# Altium schematic symbol library Tracker_v1_1_sch.SchLib: 44 symbols (part 1 of 2)
Pins are listed as number, name and electrical type; pins without a type are passive.

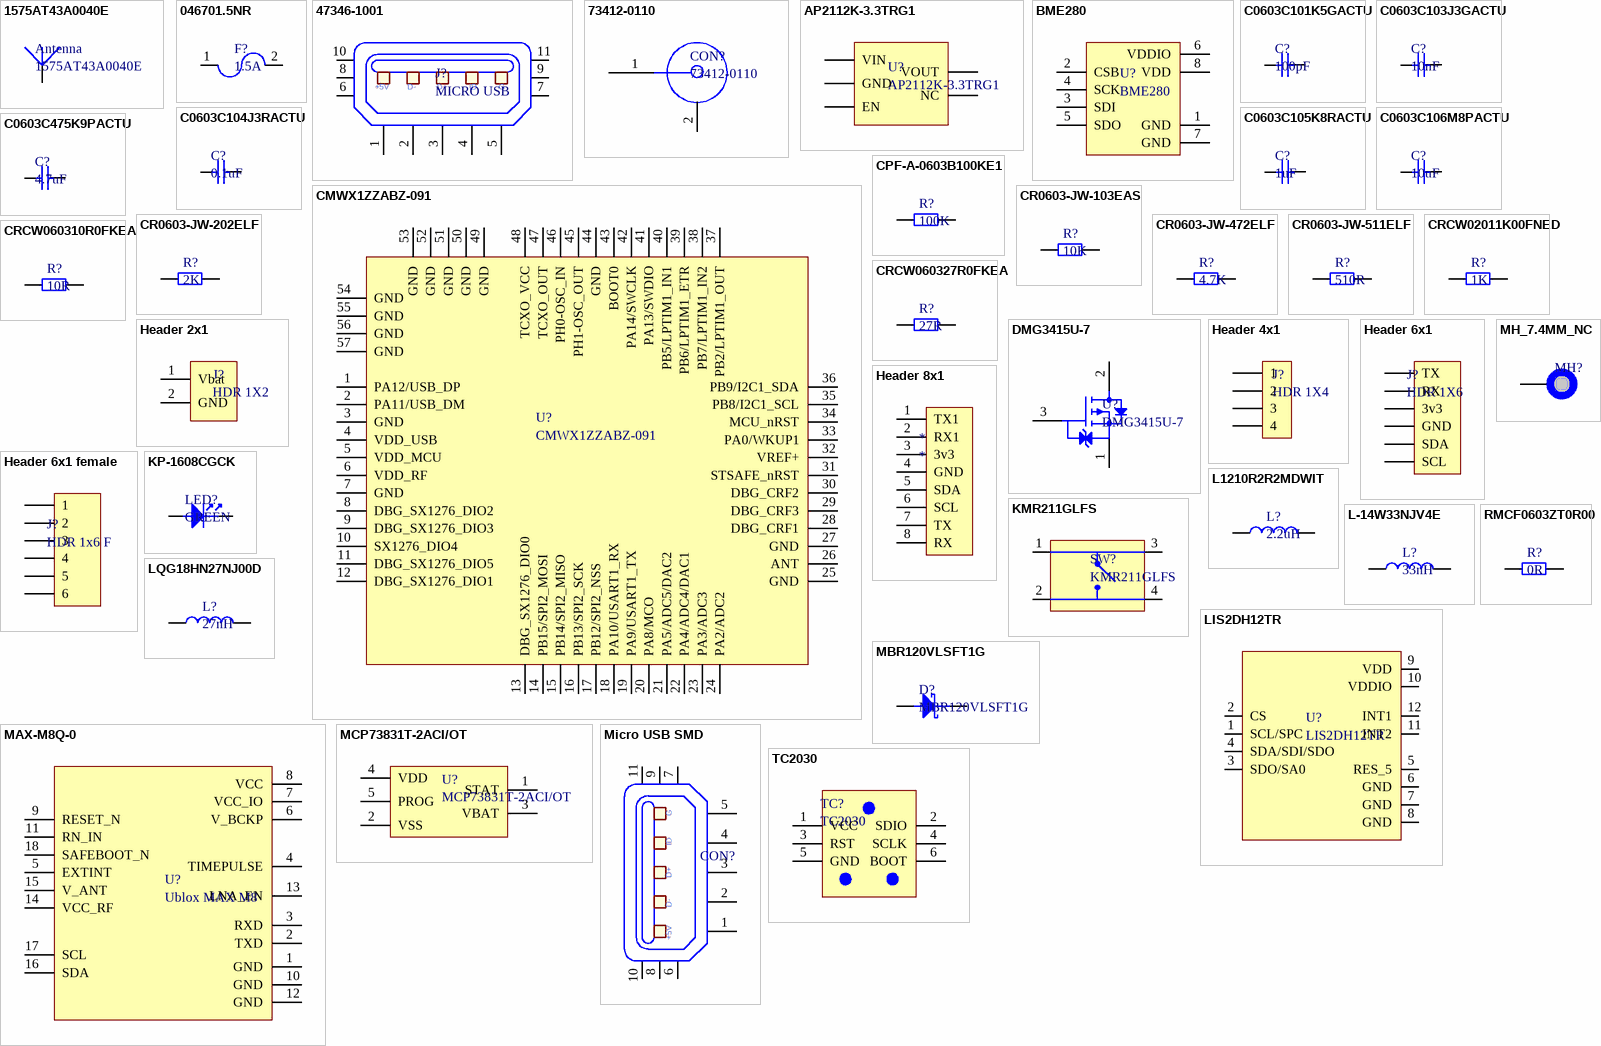
[diagram p0: symbols 1575AT43A0040E to TC2030]

## 1575AT43A0040E
designator Antenna
RF ANT 1.561GHZ/1.575GHZ CHIP; Manufacturer: Johanson; Bandwidth: 40MHz; Impedance: 50R; Power Rating: 3W; Number of Bands: 1; Return Loss: -9.5dB; Gain: -2.5dB; Supplier 1: Digi-Key; Manufacturer Part Number: 1575AT43A0040E; Stock 1: 16635; Mount: Surface Mount; Case/Package: SMD/SMT; Number of Pins: 2; Min Operating Temperature: -40°C; Max Operating Temperature: 85°C; Packaging: Tape and Reel; Package Quantity: 1; Max Power Dissipation: 3W; Termination: Solder; Frequency: 1.575GHz; Length: 7mm; Height: 0.031inch; Width: 2mm; Lead Free: Lead Free; ComponentLink1URL: https://www.johansontechnology.com/datasheets/antennas/1575AT43A0040.pdf?src-supplier=Digi-Key; ComponentLink1Description: https://www.johansontechnology.com/datasheets/antennas/1575AT43A0040.pdf?src-supplier=Digi-Key; ComponentLink2URL: http://components.arrow.com/part/dataview/48775214S9149316N2069?src-supplier=Arrow; ComponentLink2Description: http://components.arrow.com/part/dataview/48775214S9149316N2069?src-supplier=Arrow; ComponentLink3URL: http://www.mouser.com/ds/2/611/JTI_Antenna-1575AT43A40_2006-09-399627.pdf?src-supplier=Mouser; ComponentLink3Description: http://www.mouser.com/ds/2/611/JTI_Antenna-1575AT43A40_2006-09-399627.pdf?src-supplier=Mouser; Supplier Part Number 1: 712-1003-6-ND
footprint JTI antena
pins: 1 A

## 046701.5NR
designator F?, comment 1.5A
FUSE BOARD MNT 1.5A 32VAC 65VDC; Manufacturer: Littelfuse; Manufacturer Part Number: 046701.5NR; Body Material: Thermoplastic; Voltage Rating (AC): 32V; DC Cold Resistance: 38.5mR; Power Dissipation: 121.7mW; Fuse Type: Board Mount (Cartridge Style Excluded); Resistance: 41mR; Approvals: UL,CSA; Supplier 1: Farnell; Stock 1: 0; Mount: Surface Mount; Case/Package: 0603; Number of Pins: 2; Case Code (Metric): 1608; Case Code (Imperial): 0603; Min Operating Temperature: -55°C; Max Operating Temperature: 90°C; Voltage Rating (DC): 32V; Current Rating: 1.5A; Packaging: Tape and Reel; Package Quantity: 5000; Composition: Thin Film; Voltage Rating: 32V; Termination: SMD/SMT; Fuse Current: 1.5A; Working Voltage: 32V; Length: 1.6mm; Height: 0.012inch; Width: 0.813mm; Depth: 0.81mm; Radiation Hardening: No; REACH SVHC: Unknown; Lead Free: Lead Free; ComponentLink1URL: http://www.farnell.com/datasheets/1851810.pdf?src-supplier=Element14; ComponentLink1Description: http://www.farnell.com/datasheets/1851810.pdf?src-supplier=Element14; ComponentLink2URL: http://www.littelfuse.com/~/media/electronics/datasheets/fuses/littelfuse_fuse_467_datasheet.pdf.pdf?src-supplier=Digi-Key; ComponentLink2Description: http://www.littelfuse.com/~/media/electronics/datasheets/fuses/littelfuse_fuse_467_datasheet.pdf.pdf?src-supplier=Digi-Key; ComponentLink3URL: http://www.littelfuse.com/data/en/Data_Sheets/467.pdf?src-supplier=Future+Electronics; ComponentLink3Description: http://www.littelfuse.com/data/en/Data_Sheets/467.pdf?src-supplier=Future+Electronics; ComponentLink4URL: https://www.verical.com/server-webapp/html/getDatasheet?partID=772543&src-supplier=Verical; ComponentLink4Description: https://www.verical.com/server-webapp/html/getDatasheet?partID=772543&src-supplier=Verical; Supplier Part Number 1: 1596948RL
footprint Fuse
pins: 1, 2

## 47346-1001
designator J?, comment MICRO USB
CONN RCPT USB2.0 MICRO B SMD R/A; Manufacturer: Molex; Manufacturer Part Number: 47346-1001; Number of Circuits: 5; Pitch: 0.65mm; Supplier 1: Farnell; Stock 1: 8981; Pricing 1: 1=0.614, 60=0.527, 200=0.476, 500=0.438, 1000=0.389 (EUR); Mount: Surface Mount; Contact Material: Copper Alloy; Contact Plating: Gold; Housing Material: Polymer; Min Operating Temperature: -30°C; Max Operating Temperature: 85°C; Orientation: Right Angle; Termination: Solder; Length: 7.8mm; REACH SVHC: No SVHC; Halogen Free: Low Halogen; Supplier Part Number 1: 2782045
footprint Micro USB
pins: 1, 2, 3, 4, 5, 6, 7, 8, 9, 10, 11
text: +5V; D-; D+; ID; G

## 73412-0110
designator CON?
RF Connectors / Coaxial Connectors MCX V PCB JACK SMT 1.25MM MNT HGT; Manufacturer: Molex; Body Material: Liquid Crystal Polymer,Polymer; Body Plating: Gold; Impedance: 50R; Frequency: 6GHz; Voltage Rating: 60V; Gender: Female; Mating Cycles: 30; Insulation Resistance: 500MR; Polarity: Standard; Supplier 1: Farnell; Manufacturer Part Number: 73412-0110; Stock 1: 4654; Pricing 1: 1=0.402, 150=0.368, 400=0.334, 1250=0.327, 2500=0.32 (EUR); Mount: PCB,Surface Mount,Through Hole; Contact Material: Brass,Bronze; Contact Plating: Gold; Material: Bronze; Min Operating Temperature: -40°C; Max Operating Temperature: 90°C; Termination: Solder; Connector Type: Coaxial; Package Quantity: 5000; Packaging: Tape and Reel; Max Frequency: 6GHz; Orientation: Straight; Voltage Rating (AC): 60V; Radiation Hardening: No; REACH SVHC: Unknown; Halogen Free: Low Halogen; Lead Free: Lead Free; ComponentLink1URL: http://www.molex.com/webdocs/datasheets/pdf/en-us/0734120110_RF_COAX_CONNECTORS.pdf?src-supplier=Avnet+Europe; ComponentLink1Description: http://www.molex.com/webdocs/datasheets/pdf/en-us/0734120110_RF_COAX_CONNECTORS.pdf?src-supplier=Avnet+Europe; ComponentLink2URL: http://uk.rs-online.com/webdocs/13c4/0900766b813c49d5.pdf?src-supplier=RSComponents; ComponentLink2Description: http://uk.rs-online.com/webdocs/13c4/0900766b813c49d5.pdf?src-supplier=RSComponents; ComponentLink3URL: http://www.farnell.com/datasheets/1841262.pdf?src-supplier=Farnell; ComponentLink3Description: http://www.farnell.com/datasheets/1841262.pdf?src-supplier=Farnell; ComponentLink4URL: http://www.molex.com/webdocs/datasheets/pdf/en-us/0734120110_RF_COAX_CONNECTORS.pdf?src-supplier=Mouser; ComponentLink4Description: http://www.molex.com/webdocs/datasheets/pdf/en-us/0734120110_RF_COAX_CONNECTORS.pdf?src-supplier=Mouser; ComponentLink5URL: http://www.onlinecomponents.com/productFiles/mf-MOL/1387750734120110_rf_coax_nectors.pdf?src-supplier=Onlinecomponents.com; ComponentLink5Description: http://www.onlinecomponents.com/productFiles/mf-MOL/1387750734120110_rf_coax_nectors.pdf?src-supplier=Onlinecomponents.com; ComponentLink6URL: http://www.farnell.com/datasheets/1808577.pdf?src-supplier=Element14; ComponentLink6Description: http://www.farnell.com/datasheets/1808577.pdf?src-supplier=Element14; ComponentLink7URL: http://www.molex.com/webdocs/datasheets/pdf/en-us/0734120110_RF_COAX_CONNECTORS.pdf?src-supplier=Avnet; ComponentLink7Description: http://www.molex.com/webdocs/datasheets/pdf/en-us/0734120110_RF_COAX_CONNECTORS.pdf?src-supplier=Avnet; Supplier Part Number 1: 1340200
footprint Antena connector
pins: 1 (oc), 2 (oc)

## AP2112K-3.3TRG1
designator U?
IC REG LINEAR 3.3V 600MA SOT25; Manufacturer: Diodes; Min Input Voltage: 2.5V; Number of Outputs: 1; Dropout Voltage: 250mV; Max Input Voltage: 6V; Quiescent Current: 55uA; Polarity: Positive; Accuracy: 1.5%; Output Type: Fixed; Supplier 1: Digi-Key; Manufacturer Part Number: AP2112K-3.3TRG1; Stock 1: 120000; Mount: Surface Mount; Case/Package: SOT-23-5; Number of Pins: 5; Min Operating Temperature: -40°C; Max Operating Temperature: 85°C; Package Quantity: 1; Packaging: Tape and Reel; Output Voltage: 3.3V; Output Current: 600mA; Number of Regulators: 1; Max Output Current: 600mA; Length: 3.1mm; Height: 1.3mm; Width: 1.7mm; Lead Free: Lead Free; ComponentLink1URL: http://www.diodes.com/datasheets/AP2112.pdf?src-supplier=Avnet; ComponentLink1Description: http://www.diodes.com/datasheets/AP2112.pdf?src-supplier=Avnet; ComponentLink2URL: https://www.diodes.com/assets/Datasheets/AP2112.pdf?src-supplier=Digi-Key; ComponentLink2Description: https://www.diodes.com/assets/Datasheets/AP2112.pdf?src-supplier=Digi-Key; Supplier Part Number 1: AP2112K-3.3TRG1DITR-ND
footprint AP2112
pins: 1 VIN, 2 GND, 3 EN, 4 NC, 5 VOUT

## BME280
designator U?
Pressure, Temperature and Humidity Sensor Digital Output 1.8V 8-Pin LGA T/R; Manufacturer: Bosch; Supplier 1: Digi-Key; Manufacturer Part Number: BME280; Stock 1: 0; Case/Package: LGA; Number of Pins: 8; Lead Free: Lead Free; Supplier Part Number 1: 828-1063-2-ND
footprint BME280
pins: 1 GND, 2 CSB, 3 SDI, 4 SCK, 5 SDO, 6 VDDIO, 7 GND, 8 VDD

## C0603C101K5GACTU
designator C?, comment 100pF
Cap Ceramic 100pF 50V C0G 10% SMD 0603 125C Paper T/R; Manufacturer: KEMET; Manufacturer Part Number: C0603C101K5GACTU; Dissipation Factor: 0.1%; Supplier 1: Farnell; Stock 1: 0; Mount: Surface Mount,PCB; Case/Package: 0603; Dielectric Material: Ceramic; Case Code (Metric): 1608; Case Code (Imperial): 0603; Contact Plating: Tin,Matte; Min Operating Temperature: -55°C; Max Operating Temperature: 125°C; Capacitance: 100pF; Tolerance: 10%; Packaging: Tape and Reel; Voltage Rating (DC): 50V; Dielectric: C0G; Package Quantity: 1; Voltage Rating: 50V; Termination: SMD/SMT; Length: 1.6mm; Height: 0.8mm; Width: 0.031inch; Thickness: 0.034inch; Lead Pitch: 0.7mm; Depth: 0.8mm; Radiation Hardening: No; REACH SVHC: No SVHC; Lead Free: Lead Free; ComponentLink1URL: http://www.onlinecomponents.com/productFiles/mf-KEM/kem_c1003_c0g_smd.pdf?src-supplier=Onlinecomponents.com; ComponentLink1Description: http://www.onlinecomponents.com/productFiles/mf-KEM/kem_c1003_c0g_smd.pdf?src-supplier=Onlinecomponents.com; ComponentLink2URL: https://www.verical.com/server-webapp/html/getDatasheet?partID=77366&src-supplier=Verical; ComponentLink2Description: https://www.verical.com/server-webapp/html/getDatasheet?partID=77366&src-supplier=Verical; ComponentLink3URL: http://www.farnell.com/datasheets/1828801.pdf?src-supplier=Element14; ComponentLink3Description: http://www.farnell.com/datasheets/1828801.pdf?src-supplier=Element14; ComponentLink4URL: http://www.mouser.com/ds/2/212/KEM_C1003_C0G_SMD-1101588.pdf?src-supplier=Mouser; ComponentLink4Description: http://www.mouser.com/ds/2/212/KEM_C1003_C0G_SMD-1101588.pdf?src-supplier=Mouser; Supplier Part Number 1: 1823375
footprint C0603
pins: 1, 2

## C0603C103J3GACTU
designator C?, comment 10nF
0603 C 10nF Ceramic Multilayer Capacitor, 25 V, +125degC, C0G Dielectric, +/-5%; Manufacturer: KEMET; Manufacturer Part Number: C0603C103J3GACTU; Tolerance: 5%; Voltage Rating (DC): 25V; Voltage: 50V; Temperature Coefficient: 30ppm/°C; Dissipation Factor: 0.1%; Supplier 1: Digi-Key; Stock 1: 0; Mount: Surface Mount; Case/Package: 0603; Number of Pins: 2; Dielectric Material: Ceramic; Case Code (Metric): 1608; Case Code (Imperial): 0603; Contact Plating: Tin,Matte; Min Operating Temperature: -55°C; Max Operating Temperature: 125°C; Capacitance: 10nF; Packaging: Tape and Reel; Dielectric: C0G; Voltage Rating: 25V; Package Quantity: 4000; Termination: SMD/SMT; Length: 1.6mm; Height: 0.8mm; Depth: 0.8mm; Width: 0.8mm; Thickness: 0.034inch; Radiation Hardening: No; Lead Free: Lead Free; REACH SVHC: No SVHC; ComponentLink1URL: https://www.verical.com/server-webapp/html/getDatasheet?partID=556319&src-supplier=Verical; ComponentLink1Description: https://www.verical.com/server-webapp/html/getDatasheet?partID=556319&src-supplier=Verical; ComponentLink2URL: http://www.farnell.com/datasheets/2315092.pdf?src-supplier=Farnell; ComponentLink2Description: http://www.farnell.com/datasheets/2315092.pdf?src-supplier=Farnell; ComponentLink3URL: http://www.farnell.com/datasheets/1732695.pdf?src-supplier=Element14; ComponentLink3Description: http://www.farnell.com/datasheets/1732695.pdf?src-supplier=Element14; ComponentLink4URL: http://www.mouser.com/ds/2/212/KEM_C1003_C0G_SMD-1101588.pdf?src-supplier=Mouser; ComponentLink4Description: http://www.mouser.com/ds/2/212/KEM_C1003_C0G_SMD-1101588.pdf?src-supplier=Mouser; Supplier Part Number 1: C0603C103J3GACTU-ND
footprint C0603
pins: 1, 2

## C0603C104J3RACTU
designator C?, comment 0.1uF
CAP CER 0.1UF 25V X7R 0603; Manufacturer: KEMET; Manufacturer Part Number: C0603C104J3RACTU; Dielectric Material: Ceramic; Capacitance: 100nF; Tolerance: 5%; Supplier 1: Farnell; Stock 1: 0; Pricing 1: 150=0.158, 500=0.132, 1000=0.12 (EUR); Mount: Surface Mount,PCB; Case/Package: 0603; Number of Pins: 2; Case Code (Metric): 1608; Case Code (Imperial): 0603; Contact Plating: Tin,Matte; Min Operating Temperature: -55°C; Max Operating Temperature: 125°C; Packaging: Tape and Reel; Dielectric: X7R; Package Quantity: 4000; Voltage Rating: 25V; Voltage Rating (DC): 25V; Termination: SMD/SMT; Voltage: 25V; Length: 1.6mm; Height: 0.8mm; Depth: 0.8mm; Width: 0.031inch; Thickness: 0.034inch; Lead Pitch: 0.7mm; Radiation Hardening: No; REACH SVHC: No SVHC; ComponentLink1URL: https://www.verical.com/server-webapp/html/getDatasheet?partID=33575&src-supplier=Verical; ComponentLink1Description: https://www.verical.com/server-webapp/html/getDatasheet?partID=33575&src-supplier=Verical; ComponentLink2URL: http://www.farnell.com/datasheets/1851736.pdf?src-supplier=Element14; ComponentLink2Description: http://www.farnell.com/datasheets/1851736.pdf?src-supplier=Element14; ComponentLink3URL: https://www.alliedelec.com/m/d/9bfe7773041ffe9d406e68bc7b377fdd.pdf?src-supplier=Allied+Electronics; ComponentLink3Description: https://www.alliedelec.com/m/d/9bfe7773041ffe9d406e68bc7b377fdd.pdf?src-supplier=Allied+Electronics; ComponentLink4URL: http://www.kemet.com/kemet/web/homepage/kechome.nsf/vapubfiles/KEM_C1002_X7R_SMD.pdf/$file/KEM_C1002_X7R_SMD.pdf?src-supplier=Element14; ComponentLink4Description: http://www.kemet.com/kemet/web/homepage/kechome.nsf/vapubfiles/KEM_C1002_X7R_SMD.pdf/$file/KEM_C1002_X7R_SMD.pdf?src-supplier=Element14; Supplier Part Number 1: 1650833RL
footprint C0603
pins: 1, 2

## C0603C105K8RACTU
designator C?, comment 1uF
Cap Ceramic 1uF 10V X7R 10% SMD 0603 125C T/R; Manufacturer: KEMET; Manufacturer Part Number: C0603C105K8RACTU; Dissipation Factor: 5%; Supplier 1: Farnell; Stock 1: 0; Pricing 1: 150=0.0567, 500=0.0425, 1000=0.0372 (EUR); Mount: Surface Mount; Case/Package: 0603; Case Code (Imperial): 0603; Case Code (Metric): 1608; Contact Plating: Tin,Matte; Dielectric Material: Ceramic; Min Operating Temperature: -55°C; Max Operating Temperature: 125°C; Packaging: Tape and Reel; Capacitance: 1uF; Package Quantity: 1; Voltage Rating: 10V; Voltage Rating (DC): 10V; Tolerance: 10%; Dielectric: X7R; Termination: SMD/SMT; Length: 1.6mm; Height: 0.8mm; Width: 0.8mm; Thickness: 0.035inch; Depth: 0.8mm; Radiation Hardening: No; REACH SVHC: No SVHC; ComponentLink1URL: https://www.verical.com/server-webapp/html/getDatasheet?partID=212378&src-supplier=Verical; ComponentLink1Description: https://www.verical.com/server-webapp/html/getDatasheet?partID=212378&src-supplier=Verical; Supplier Part Number 1: 2522396RL
footprint C0603
pins: 1, 2

## C0603C106M8PACTU
designator C?, comment 10uF
CAP CER 10UF 10V X5R 0603; Manufacturer: KEMET; Manufacturer Part Number: C0603C106M8PACTU; Supplier 1: Farnell; Stock 1: 0; Pricing 1: 150=0.424, 500=0.311, 1000=0.26 (EUR); Supplier Part Number 1: 2820985RL
footprint C0603
pins: 1, 2

## C0603C475K9PACTU
designator C?, comment 4.7uF
CAP CER 4.7UF 6.3V X5R 0603; Manufacturer: KEMET; Manufacturer Part Number: C0603C475K9PACTU; Dielectric Material: Ceramic; Tolerance: 10%; Dissipation Factor: 5%; Supplier 1: Farnell; Stock 1: 0; Mount: Surface Mount,PCB; Case/Package: 0603; Number of Pins: 2; Case Code (Metric): 1608; Case Code (Imperial): 0603; Contact Plating: Tin,Matte; Min Operating Temperature: -55°C; Max Operating Temperature: 85°C; Package Quantity: 1; Capacitance: 4.7uF; Voltage Rating: 6.3V; Packaging: Tape and Reel; Voltage Rating (DC): 6.3V; Dielectric: X5R; Termination: SMD/SMT; Voltage: 6.3V; Length: 1.6mm; Height: 0.8mm; Width: 0.031inch; Thickness: 0.035inch; Lead Pitch: 0.7mm; Depth: 0.8mm; Radiation Hardening: No; REACH SVHC: No SVHC; Lead Free: Lead Free; ComponentLink1URL: https://api.kemet.com/component-edge/download/datasheet/C0603C475K9PACTU.pdf?src-supplier=Digi-Key; ComponentLink1Description: https://api.kemet.com/component-edge/download/datasheet/C0603C475K9PACTU.pdf?src-supplier=Digi-Key; ComponentLink2URL: http://www.farnell.com/datasheets/1732700.pdf?src-supplier=Element14; ComponentLink2Description: http://www.farnell.com/datasheets/1732700.pdf?src-supplier=Element14; ComponentLink3URL: http://www.farnell.com/datasheets/1789732.pdf?src-supplier=Element14; ComponentLink3Description: http://www.farnell.com/datasheets/1789732.pdf?src-supplier=Element14; ComponentLink4URL: http://www.farnell.com/datasheets/40889.pdf?src-supplier=Element14; ComponentLink4Description: http://www.farnell.com/datasheets/40889.pdf?src-supplier=Element14; Supplier Part Number 1: 1310155
footprint C0603
pins: 1, 2

## CMWX1ZZABZ-091
designator U?
MURATA - CMWX1ZZABZ-091 - RF MODULE, 860-930MHZ, 4.8KBPS, 18.5DBM; Supplier 1: Farnell; Manufacturer: Murata; Manufacturer Part Number: CMWX1ZZABZ-091; Stock 1: 1534; Pricing 1: 1=16.46, 5=16.26, 10=13.54, 50=12.97, 100=12.39, 250=9.81 (EUR); Supplier Part Number 1: 2802546
footprint Murata ABZ
pins: 1 PA12/USB_DP, 2 PA11/USB_DM, 3 GND, 4 VDD_USB, 5 VDD_MCU, 6 VDD_RF, 7 GND, 8 DBG_SX1276_DIO2, 9 DBG_SX1276_DIO3, 10 SX1276_DIO4, 11 DBG_SX1276_DIO5, 12 DBG_SX1276_DIO1, 13 DBG_SX1276_DIO0, 14 PB15/SPI2_MOSI, 15 PB14/SPI2_MISO, 16 PB13/SPI2_SCK, 17 PB12/SPI2_NSS, 18 PA10/USART1_RX, 19 PA9/USART1_TX, 20 PA8/MCO, 21 PA5/ADC5/DAC2, 22 PA4/ADC4/DAC1, 23 PA3/ADC3, 24 PA2/ADC2, 25 GND, 26 ANT, 27 GND, 28 DBG_CRF1, 29 DBG_CRF3, 30 DBG_CRF2, 31 STSAFE_nRST, 32 VREF+, 33 PA0/WKUP1, 34 MCU_nRST, 35 PB8/I2C1_SCL, 36 PB9/I2C1_SDA, 37 PB2/LPTIM1_OUT, 38 PB7/LPTIM1_IN2, 39 PB6/LPTIM1_ETR, 40 PB5/LPTIM1_IN1, 41 PA13/SWDIO, 42 PA14/SWCLK, 43 BOOT0, 44 GND, 45 PH1-OSC_OUT, 46 PH0-OSC_IN, 47 TCXO_OUT, 48 TCXO_VCC, 49 GND, 50 GND, 51 GND, 52 GND, 53 GND, 54 GND, 55 GND, 56 GND, 57 GND

## CPF-A-0603B100KE1
designator R?, comment 100K
TE CONNECTIVITY         CPF-A-0603B100KE1             SMD Chip Resistor, Thin Film, 100 kohm, 50 V, 0603 [1608 Metric], 62.5 mW,  0.1%, CPF-A Series; Resistance: 100kR; Power Rating: 63mW; Voltage Rating: 50V; Temperature Coefficient: 25ppm/°C; Number of Resistors: 1; Supplier 1: Farnell; Manufacturer: TE Connectivity; Manufacturer Part Number: CPF-A-0603B100KE1; Stock 1: 0; Pricing 1: 150=0.209, 250=0.198, 500=0.172, 1000=0.135, 5000=0.13 (EUR); Mount: Surface Mount; Case/Package: 0603; Case Code (Metric): 1608; Case Code (Imperial): 0603; Packaging: Tape and Reel; Composition: Thin Film; Tolerance: 0.1%; Voltage Rating (DC): 50V; Number of Terminations: 2; Termination: Solder; REACH SVHC: No SVHC; ELV: Compliant; Supplier Part Number 1: 2483881RL
footprint R0603
pins: 1, 2

## CR0603-JW-103EAS
designator R?, comment 10K
RES 10K OHM 5% 0.01W 0603; Manufacturer: Bourns; Manufacturer Part Number: CR0603-JW-103EAS; Supplier 1: Farnell; Stock 1: 0; Pricing 1: 150=0.0181, 500=0.0155, 1000=0.007 (EUR); Supplier Part Number 1: 2752989RL
footprint R0603
pins: 1, 2

## CR0603-JW-202ELF
designator R?, comment 2K
Res Thick Film 0603 2K Ohm 5% 1/10W ±200ppm/°C Molded SMD SMD Paper Tape on Plastic Reel; Manufacturer: Bourns; Manufacturer Part Number: CR0603-JW-202ELF; Resistance: 2kR; Power Rating: 100mW; Voltage Rating: 50V; Supplier 1: Farnell; Stock 1: 0; Pricing 1: 150=0.011, 500=0.0085, 1000=0.0077 (EUR); Mount: Surface Mount; Case/Package: 0603; Case Code (Imperial): 0603; Case Code (Metric): 1608; Contact Plating: Tin; Min Operating Temperature: -55°C; Max Operating Temperature: 155°C; Packaging: Tape and Reel; Tolerance: 5%; Package Quantity: 5000; Composition: Thick Film; Termination: SMD/SMT; Temperature Coefficient: 200ppm/°C; Military Standard: Not; Length: 1.6mm; Height: 0.45mm; Width: 0.8mm; Depth: 0.8mm; Thickness: 457um; Radiation Hardening: No; ComponentLink1URL: http://www.bourns.com/pdfs/chpreztr.pdf?src-supplier=Avnet; ComponentLink1Description: http://www.bourns.com/pdfs/chpreztr.pdf?src-supplier=Avnet; ComponentLink2URL: http://www.bourns.com/pdfs/chpreztr.pdf?src-supplier=Avnet+Europe; ComponentLink2Description: http://www.bourns.com/pdfs/chpreztr.pdf?src-supplier=Avnet+Europe; Supplier Part Number 1: 2787805RL
footprint R0603
pins: 1, 2

## CR0603-JW-472ELF
designator R?, comment 4.7K
Res Thick Film 0603 4.7K Ohm 5% 1/10W ±200ppm/°C Molded SMD SMD Paper Tape on Plastic Reel; Manufacturer: Bourns; Manufacturer Part Number: CR0603-JW-472ELF; Resistance: 4.7kR; Power Rating: 100mW; Voltage Rating: 50V; Supplier 1: Farnell; Stock 1: 0; Mount: Surface Mount; Case/Package: 0603; Number of Pins: 2; Case Code (Metric): 1608; Case Code (Imperial): 0603; Contact Plating: Tin,Lead; Min Operating Temperature: -55°C; Max Operating Temperature: 155°C; Package Quantity: 1; Tolerance: 5%; Packaging: Tape and Reel; Composition: Thick Film; Number of Terminations: 2; Termination: SMD/SMT; Temperature Coefficient: 200ppm/°C; Max Power Dissipation: 100mW; Voltage Rating (DC): 50V; Features: Moisture Resistant; Length: 1.6mm; Height: 0.45mm; Width: 0.8mm; Depth: 0.8mm; Thickness: 457um; Radiation Hardening: No; REACH SVHC: No SVHC; ComponentLink1URL: http://www.farnell.com/datasheets/2178762.pdf?src-supplier=Newark; ComponentLink1Description: http://www.farnell.com/datasheets/2178762.pdf?src-supplier=Newark; ComponentLink2URL: http://www.bourns.com/pdfs/chpreztr.pdf?src-supplier=Avnet; ComponentLink2Description: http://www.bourns.com/pdfs/chpreztr.pdf?src-supplier=Avnet; ComponentLink3URL: https://www.alliedelec.com/m/d/8318635a9e5af6f7dacb272be3e73d2e.pdf?src-supplier=Allied+Electronics; ComponentLink3Description: https://www.alliedelec.com/m/d/8318635a9e5af6f7dacb272be3e73d2e.pdf?src-supplier=Allied+Electronics; ComponentLink4URL: http://www.farnell.com/datasheets/1856384.pdf?src-supplier=Element14; ComponentLink4Description: http://www.farnell.com/datasheets/1856384.pdf?src-supplier=Element14; ComponentLink5URL: http://uk.rs-online.com/webdocs/0fcd/0900766b80fcdb72.pdf?src-supplier=RSComponents; ComponentLink5Description: http://uk.rs-online.com/webdocs/0fcd/0900766b80fcdb72.pdf?src-supplier=RSComponents; ComponentLink6URL: http://www.produktinfo.conrad.com/datenblaetter/1000000-1099999/001055503-da-01-en-SMD_WID_CR0603_JW_472ELF_4_7K_OHM_1_10W.pdf?src-supplier=Conrad; ComponentLink6Description: http://www.produktinfo.conrad.com/datenblaetter/1000000-1099999/001055503-da-01-en-SMD_WID_CR0603_JW_472ELF_4_7K_OHM_1_10W.pdf?src-supplier=Conrad; Supplier Part Number 1: 2371774
footprint R0603
pins: 1, 2

## CR0603-JW-511ELF
designator R?, comment 510R
Res Thick Film 0603 510 Ohm 5% 1/10W ±200ppm/°C Molded SMD SMD Paper Tape on Plastic Reel; Manufacturer: Bourns; Manufacturer Part Number: CR0603-JW-511ELF; Power Rating: 100mW; Voltage Rating: 50V; Supplier 1: Farnell; Stock 1: 79590; Pricing 1: 10=0.016, 100=0.0113, 500=0.0089, 1000=0.0077 (EUR); Mount: Surface Mount; Case/Package: 0603; Case Code (Imperial): 0603; Case Code (Metric): 1608; Contact Plating: Tin; Min Operating Temperature: -55°C; Max Operating Temperature: 155°C; Resistance: 510R; Tolerance: 5%; Packaging: Tape and Reel; Package Quantity: 1; Composition: Thick Film; Termination: SMD/SMT; Number of Terminations: 2; Temperature Coefficient: 200ppm/°C; Military Standard: Not; Max Power Dissipation: 100mW; Features: Moisture Resistant; Length: 1.6mm; Height: 0.022inch; Width: 0.8mm; Depth: 0.8mm; Thickness: 457um; Radiation Hardening: No; ComponentLink1URL: http://www.bourns.com/pdfs/chpreztr.pdf?src-supplier=Avnet; ComponentLink1Description: http://www.bourns.com/pdfs/chpreztr.pdf?src-supplier=Avnet; ComponentLink2URL: http://www.mouser.com/ds/2/54/chpreztr-977002.pdf?src-supplier=Mouser; ComponentLink2Description: http://www.mouser.com/ds/2/54/chpreztr-977002.pdf?src-supplier=Mouser; ComponentLink3URL: https://www.bourns.com/docs/Product-Datasheets/CHPREZTR.pdf?src-supplier=Digi-Key; ComponentLink3Description: https://www.bourns.com/docs/Product-Datasheets/CHPREZTR.pdf?src-supplier=Digi-Key; Supplier Part Number 1: 2908378
footprint R0603
pins: 1, 2

## CRCW02011K00FNED
designator R?, comment 1K
RES SMD 1K OHM 1% 1/20W 0201; Manufacturer: Vishay; Manufacturer Part Number: CRCW02011K00FNED; Resistance: 1kR; Power Rating: 50mW; Voltage Rating: 30V; Temperature Coefficient: 200ppm/°C; Supplier 1: Farnell; Stock 1: 0; Mount: Surface Mount; Case/Package: 0201; Number of Pins: 2; Weight: 6E-06oz; Case Code (Metric): 0603; Case Code (Imperial): 0201; Contact Plating: Tin; Min Operating Temperature: -55°C; Max Operating Temperature: 155°C; Packaging: Tape and Reel; Tolerance: 1%; Package Quantity: 1; Composition: Thick Film; Number of Terminations: 2; Termination: SMD/SMT; Military Standard: Not; Max Power Dissipation: 50mW; Voltage Rating (DC): 30V; Length: 0.6mm; Height: 0.011inch; Width: 0.012inch; Depth: 0.3mm; Radiation Hardening: No; REACH SVHC: Unknown; Lead Free: Lead Free; ComponentLink1URL: http://www.vishay.com/docs/20052/crcw0201e3.pdf?src-supplier=Digi-Key; ComponentLink1Description: http://www.vishay.com/docs/20052/crcw0201e3.pdf?src-supplier=Digi-Key; ComponentLink2URL: http://www.vishay.com/docs/20052/crcw0201e3.pdf?src-supplier=Avnet; ComponentLink2Description: http://www.vishay.com/docs/20052/crcw0201e3.pdf?src-supplier=Avnet; ComponentLink3URL: http://www.farnell.com/datasheets/2045973.pdf?src-supplier=Element14; ComponentLink3Description: http://www.farnell.com/datasheets/2045973.pdf?src-supplier=Element14; ComponentLink4URL: http://www.farnell.com/datasheets/2111203.pdf?src-supplier=Element14; ComponentLink4Description: http://www.farnell.com/datasheets/2111203.pdf?src-supplier=Element14; ComponentLink5URL: http://www.farnell.com/datasheets/1719906.pdf?src-supplier=Element14; ComponentLink5Description: http://www.farnell.com/datasheets/1719906.pdf?src-supplier=Element14; ComponentLink6URL: https://www.alliedelec.com/m/d/32259fe16ac7be3a82fcf97fc7adeb54.pdf?src-supplier=Allied+Electronics; ComponentLink6Description: https://www.alliedelec.com/m/d/32259fe16ac7be3a82fcf97fc7adeb54.pdf?src-supplier=Allied+Electronics; Supplier Part Number 1: 2321243
footprint R0603
pins: 1, 2

## CRCW060310R0FKEA
designator R?, comment 10R
RES SMD 10 OHM 1% 1/10W 0603; Manufacturer: Vishay; Manufacturer Part Number: CRCW060310R0FKEA; Power Rating: 100mW; Temperature Coefficient: 100ppm/°C; Voltage Rating: 75V; Supplier 1: Digi-Key; Stock 1: 0; Mount: Surface Mount; Case/Package: 0603; Number of Pins: 2; Weight: 7.1E-05oz; Contact Plating: Tin; Case Code (Metric): 1608; Case Code (Imperial): 0603; Min Operating Temperature: -55°C; Max Operating Temperature: 155°C; Resistance: 10R; Tolerance: 1%; Composition: Thick Film; Packaging: Tape and Reel; Package Quantity: 10; Number of Terminations: 2; Termination: SMD/SMT; Military Standard: Not; Max Power Dissipation: 100mW; Voltage Rating (DC): 75V; Features: Automotive AEC-Q200; Length: 1.55mm; Height: 0.45mm; Width: 0.033inch; Depth: 0.85mm; Lead Free: Lead Free; REACH SVHC: Unknown; ComponentLink1URL: http://www.vishay.com/docs/20035/dcrcwe3.pdf?src-supplier=Digi-Key; ComponentLink1Description: http://www.vishay.com/docs/20035/dcrcwe3.pdf?src-supplier=Digi-Key; ComponentLink2URL: http://uk.rs-online.com/webdocs/0d98/0900766b80d98afc.pdf?src-supplier=RSComponents; ComponentLink2Description: http://uk.rs-online.com/webdocs/0d98/0900766b80d98afc.pdf?src-supplier=RSComponents; ComponentLink3URL: http://www.vishay.com/docs/20035/dcrcwe3.pdf?src-supplier=Future+Electronics; ComponentLink3Description: http://www.vishay.com/docs/20035/dcrcwe3.pdf?src-supplier=Future+Electronics; ComponentLink4URL: https://www.distrelec.biz/Web/Downloads/a_/en/flD-CRCW-e3_data_en.pdf?mime=application%2Fpdf&src-supplier=Distrelec; ComponentLink4Description: https://www.distrelec.biz/Web/Downloads/a_/en/flD-CRCW-e3_data_en.pdf?mime=application%2Fpdf&src-supplier=Distrelec; ComponentLink5URL: http://www.alliedelec.com/m/d/0c934d6939ccefa68dbe0b96d821c8cf.pdf?src-supplier=Allied+Electronics; ComponentLink5Description: http://www.alliedelec.com/m/d/0c934d6939ccefa68dbe0b96d821c8cf.pdf?src-supplier=Allied+Electronics; ComponentLink6URL: http://www.vishay.com/docs/20035/dcrcwe3.pdf?src-supplier=Avnet; ComponentLink6Description: http://www.vishay.com/docs/20035/dcrcwe3.pdf?src-supplier=Avnet; ComponentLink7URL: http://www.mouser.com/ds/2/427/dcrcwe3-109170.pdf?src-supplier=Mouser; ComponentLink7Description: http://www.mouser.com/ds/2/427/dcrcwe3-109170.pdf?src-supplier=Mouser; ComponentLink8URL: http://www.farnell.com/datasheets/2045673.pdf?src-supplier=Element14; ComponentLink8Description: http://www.farnell.com/datasheets/2045673.pdf?src-supplier=Element14; Supplier Part Number 1: 541-10.0HTR-ND
footprint R0603
pins: 1, 2

## CRCW060327R0FKEA
designator R?, comment 27R
RES SMD 27 OHM 1% 1/10W 0603; Manufacturer: Vishay; Manufacturer Part Number: CRCW060327R0FKEA; Power Rating: 100mW; Temperature Coefficient: 100ppm/°C; Voltage Rating: 75V; Supplier 1: Farnell; Stock 1: 0; Mount: Surface Mount; Case/Package: 0603; Number of Pins: 2; Weight: 7.1E-05oz; Contact Plating: Tin; Case Code (Imperial): 0603; Case Code (Metric): 1608; Min Operating Temperature: -55°C; Max Operating Temperature: 155°C; Resistance: 27R; Tolerance: 1%; Composition: Thick Film; Packaging: Tape and Reel; Termination: SMD/SMT; Package Quantity: 5000; Military Standard: Not; Voltage Rating (DC): 75V; Length: 1.55mm; Height: 0.45mm; Width: 0.85mm; Depth: 0.85mm; Radiation Hardening: No; REACH SVHC: Unknown; Lead Free: Lead Free; ComponentLink1URL: http://www.mouser.com/ds/2/427/dcrcwe3-109170.pdf?src-supplier=Mouser; ComponentLink1Description: http://www.mouser.com/ds/2/427/dcrcwe3-109170.pdf?src-supplier=Mouser; ComponentLink2URL: http://www.farnell.com/datasheets/2046716.pdf?src-supplier=Element14; ComponentLink2Description: http://www.farnell.com/datasheets/2046716.pdf?src-supplier=Element14; ComponentLink3URL: http://www.farnell.com/datasheets/1697337.pdf?src-supplier=Element14; ComponentLink3Description: http://www.farnell.com/datasheets/1697337.pdf?src-supplier=Element14; ComponentLink4URL: http://www.farnell.com/datasheets/2111203.pdf?src-supplier=Element14; ComponentLink4Description: http://www.farnell.com/datasheets/2111203.pdf?src-supplier=Element14; ComponentLink5URL: http://uk.rs-online.com/webdocs/0d98/0900766b80d98afc.pdf?src-supplier=RSComponents; ComponentLink5Description: http://uk.rs-online.com/webdocs/0d98/0900766b80d98afc.pdf?src-supplier=RSComponents; ComponentLink6URL: http://www.vishay.com/docs/20035/dcrcwe3.pdf?src-supplier=Avnet+Europe; ComponentLink6Description: http://www.vishay.com/docs/20035/dcrcwe3.pdf?src-supplier=Avnet+Europe; ComponentLink7URL: http://www.alliedelec.com/m/d/0c934d6939ccefa68dbe0b96d821c8cf.pdf?src-supplier=Allied+Electronics; ComponentLink7Description: http://www.alliedelec.com/m/d/0c934d6939ccefa68dbe0b96d821c8cf.pdf?src-supplier=Allied+Electronics; ComponentLink8URL: http://www.vishay.com/docs/20035/dcrcwe3.pdf?src-supplier=Future+Electronics; ComponentLink8Description: http://www.vishay.com/docs/20035/dcrcwe3.pdf?src-supplier=Future+Electronics; Supplier Part Number 1: 1151876
footprint R0603
pins: 1, 2

## DMG3415U-7
designator U?
MOSFET P-CH 20V 4A SOT-23; Manufacturer: Diodes; Rise Time: 117ns; Rds On Max: 39mR; Input Capacitance: 294pF; Nominal Vgs: -550mV; Number of Elements: 1; Max Power Dissipation: 900mW; Drain to Source Resistance: 42.5mR; Gate to Source Voltage (Vgs): 8V; Fall Time: 393ns; Turn-Off Delay Time: 795ns; Turn-On Delay Time: 71ns; Element Configuration: Single; Drain to Source Breakdown Voltage: -20V; Supplier 1: Farnell; Manufacturer Part Number: DMG3415U-7; Stock 1: 0; Mount: Surface Mount; Case/Package: SOT-23; Number of Pins: 3; Weight: 0.000282oz; Contact Plating: Tin,Matte; Min Operating Temperature: -55°C; Max Operating Temperature: 150°C; Packaging: Tape and Reel; Package Quantity: 3000; Drain to Source Voltage (Vdss): 20V; Continuous Drain Current (ID): 4A; Number of Channels: 1; Power Dissipation: 900mW; Threshold Voltage: -550mV; On-State Resistance: 42.5mR; Length: 2.9mm; Height: 1mm; Width: 1.3mm; Radiation Hardening: No; REACH SVHC: No SVHC; Lead Free: Lead Free; ComponentLink1URL: http://www.diodes.com/datasheets/ds31735.pdf?src-supplier=Avnet; ComponentLink1Description: http://www.diodes.com/datasheets/ds31735.pdf?src-supplier=Avnet; ComponentLink2URL: https://www.diodes.com/assets/Datasheets/ds31735.pdf?src-supplier=Digi-Key; ComponentLink2Description: https://www.diodes.com/assets/Datasheets/ds31735.pdf?src-supplier=Digi-Key; ComponentLink3URL: http://www.mouser.com/ds/2/115/ds31735-64958.pdf?src-supplier=Mouser; ComponentLink3Description: http://www.mouser.com/ds/2/115/ds31735-64958.pdf?src-supplier=Mouser; ComponentLink4URL: http://www.farnell.com/datasheets/1915618.pdf?src-supplier=Element14; ComponentLink4Description: http://www.farnell.com/datasheets/1915618.pdf?src-supplier=Element14; ComponentLink5URL: http://www.diodes.com/_files/datasheets/ds31735.pdf?src-supplier=Future+Electronics; ComponentLink5Description: http://www.diodes.com/_files/datasheets/ds31735.pdf?src-supplier=Future+Electronics; Supplier Part Number 1: 1843688RL
footprint DMG3415U-7
pins: 1 D, 2 S, 3 G

## Header 2x1
designator J?, comment HDR 1X2
footprint HEADER 2X1
pins: 1 Vbat, 2 GND

## Header 4x1
designator J?, comment HDR 1X4
footprint Header 4x1
pins: 1, 2, 3, 4

## Header 6x1
designator J?, comment HDR 1X6
footprint hEADER 6X1
pins: 1 TX, 2 RX, 3 3v3, 4 GND, 5 SDA, 6 SCL

## Header 6x1 female
designator J?, comment HDR 1x6 F
footprint HEADER 6x1 F
pins: 1, 2, 3, 4, 5, 6

## Header 8x1
designator *
footprint HEADER 8x1
pins: 1 TX1, 2 RX1, 3 3v3, 4 GND, 5 SDA, 6 SCL, 7 TX, 8 RX

## KMR211GLFS
designator SW?
SWITCH TACTILE SPST-NO 0.05A 32V; Manufacturer: ITT C&K; Mechanical Life: 200000Cycles; Operating Force: 1.2N; Throw Configuration: SPST; Max Current Rating: 50mA; Power Rating: 1W; Illumination Type: Non-Illuminated,Illuminated; Switch Travel: 0.2mm; Switch Function: Off-Mom; Actuator Type: Standard; Actuator Length: 0.5mm; Supplier 1: Farnell; Manufacturer Part Number: KMR211GLFS; Stock 1: 0; Mount: Surface Mount; Contact Material: Silver; Contact Plating: Silver; Min Operating Temperature: -40°C; Max Operating Temperature: 85°C; Max Voltage Rating (DC): 32V; Termination: Gull Wing; Packaging: Tape and Reel; Orientation: Straight; Contact Current Rating: 50mA; Voltage Rating (DC): 32V; Package Quantity: 1; Current Rating: 50mA; Length: 2.8mm; Depth: 4.6mm; Width: 2.8mm; Radiation Hardening: No; REACH SVHC: No SVHC; Lead Free: Lead Free; ComponentLink1URL: http://uk.rs-online.com/webdocs/129c/0900766b8129c9f0.pdf?src-supplier=RSComponents; ComponentLink1Description: http://uk.rs-online.com/webdocs/129c/0900766b8129c9f0.pdf?src-supplier=RSComponents; ComponentLink2URL: http://www1.futureelectronics.com/doc/C%20-%20K%20COMPONENTS/KMR211GLFS.pdf?src-supplier=Future+Electronics; ComponentLink2Description: http://www1.futureelectronics.com/doc/C%20-%20K%20COMPONENTS/KMR211GLFS.pdf?src-supplier=Future+Electronics; ComponentLink3URL: http://www.farnell.com/datasheets/2044619.pdf?src-supplier=Element14; ComponentLink3Description: http://www.farnell.com/datasheets/2044619.pdf?src-supplier=Element14; ComponentLink4URL: http://www.ck-components.com/14414/kmr2_9aug12.pdf/?src-supplier=Avnet; ComponentLink4Description: http://www.ck-components.com/14414/kmr2_9aug12.pdf/?src-supplier=Avnet; ComponentLink5URL: http://www.ck-components.com/14414/kmr2_9aug12.pdf/?src-supplier=Avnet+Europe; ComponentLink5Description: http://www.ck-components.com/14414/kmr2_9aug12.pdf/?src-supplier=Avnet+Europe; ComponentLink6URL: https://www.ckswitches.com/media/1479/kmr2.pdf?src-supplier=Digi-Key; ComponentLink6Description: https://www.ckswitches.com/media/1479/kmr2.pdf?src-supplier=Digi-Key; ComponentLink7URL: http://www.ckswitches.com/media/1479/kmr2.pdf?src-supplier=Onlinecomponents.com; ComponentLink7Description: http://www.ckswitches.com/media/1479/kmr2.pdf?src-supplier=Onlinecomponents.com; Supplier Part Number 1: 1437635RL
footprint Button
pins: 1, 2, 3, 4

## KP-1608CGCK
designator LED?, comment GREEN
KINGBRIGHT - KP-1608CGCK - LED, 0603, 50MCD, GREEN; Lens Color: Clear; Viewing Angle: 120°; Lens Style: Rectangular,Diffused,Colorless; Dominant Wavelength: 570nm; Number of LEDs: 1; Forward Voltage: 2.1V; Forward Current: 20mA; Supplier 1: Farnell; Manufacturer: Kingbright; Manufacturer Part Number: KP-1608CGCK; Stock 1: 18535; Pricing 1: 5=0.157, 50=0.143, 100=0.0934, 500=0.0789, 1000=0.0621 (EUR); Mount: Surface Mount; Case/Package: 1608; Number of Pins: 2; Color: Green; Luminous Intensity: 50mcd; Wavelength: 570nm; Packaging: Tape and Reel; Length: 0.8mm; Height: 1.1mm; Width: 1.6mm; Radiation Hardening: No; REACH SVHC: No SVHC; ComponentLink1URL: http://www.farnell.com/datasheets/2045956.pdf?src-supplier=Element14; ComponentLink1Description: http://www.farnell.com/datasheets/2045956.pdf?src-supplier=Element14; ComponentLink2URL: http://www.rapidonline.com/pdf/72-8670.pdf?src-supplier=Rapid+Electronics; ComponentLink2Description: http://www.rapidonline.com/pdf/72-8670.pdf?src-supplier=Rapid+Electronics; Supplier Part Number 1: 2290328
footprint LED_0603
pins: 1 Cathode, 2 Anode

## L1210R2R2MDWIT
designator L?, comment 2.2uH
FIXED IND 2.2UH 2A 80 MOHM SMD; Manufacturer: KEMET; Manufacturer Part Number: L1210R2R2MDWIT; Core Material: Ferrite; Tolerance: 20%; Shielding: Unshielded; Self Resonant Frequency: 190MHz; DC Resistance (DCR): 80mR; Test Frequency: 100kHz; DC Current: 1.13A; Supplier 1: Digi-Key; Stock 1: 17546; Pricing 1: 1=0.55, 10=0.479, 100=0.3421, 500=0.2874 (USD); Mount: Surface Mount; Case/Package: 1210; Case Code (Metric): 3225; Case Code (Imperial): 1210; Min Operating Temperature: -40°C; Max Operating Temperature: 105°C; Package Quantity: 1000; Current Rating: 2A; Packaging: Tape and Reel; Inductance Tolerance: 20%; Composition: Ceramic,Wirewound; Inductance: 2.2uH; Max DC Current: 2A; Termination: SMD/SMT; Military Standard: Not; Length: 0.126inch; Height: 2.5mm; Width: 0.098inch; Height - Seated (Max): 0.106inch; Depth: 2.7mm; Radiation Hardening: No; REACH SVHC: No SVHC; ComponentLink1URL: https://content.kemet.com/datasheets/F3115.pdf?src-supplier=Mouser; ComponentLink1Description: https://content.kemet.com/datasheets/F3115.pdf?src-supplier=Mouser; ComponentLink2URL: https://content.kemet.com/datasheets/F3115.pdf?src-supplier=Avnet+Europe; ComponentLink2Description: https://content.kemet.com/datasheets/F3115.pdf?src-supplier=Avnet+Europe; ComponentLink3URL: http://www.farnell.com/datasheets/27262.pdf?src-supplier=Element14; ComponentLink3Description: http://www.farnell.com/datasheets/27262.pdf?src-supplier=Element14; ComponentLink4URL: https://api.kemet.com/component-edge/download/datasheet/L1210R2R2MDWIT.pdf?src-supplier=Digi-Key; ComponentLink4Description: https://api.kemet.com/component-edge/download/datasheet/L1210R2R2MDWIT.pdf?src-supplier=Digi-Key; ComponentLink5URL: http://www.kemet.com/Lists/ProductCatalog/Attachments/57/F3115.pdf?src-supplier=Avnet; ComponentLink5Description: http://www.kemet.com/Lists/ProductCatalog/Attachments/57/F3115.pdf?src-supplier=Avnet; Supplier Part Number 1: 399-9598-6-ND
footprint L0603
pins: 1, 2

## L-14W33NJV4E
designator L?, comment 33nH
FIXED IND 33NH 600MA 220 MOHM; Manufacturer: Johanson; Manufacturer Part Number: L-14W33NJV4E; Core Material: Ceramic; Tolerance: 5%; Shielding: Unshielded; Q Factor: 60; DC Resistance (DCR): 220mR; Self Resonant Frequency: 2.3GHz; Test Frequency: 250MHz; Supplier 1: Farnell; Stock 1: 3685; Pricing 1: 5=0.235, 50=0.156, 250=0.115, 500=0.0976, 1500=0.0923, 3000=0.0781, 15000=0.0651 (EUR); Mount: Surface Mount; Case/Package: 0603; Number of Pins: 2; Case Code (Metric): 1610; Case Code (Imperial): 0603; Min Operating Temperature: -40°C; Max Operating Temperature: 125°C; Package Quantity: 3000; Current Rating: 600mA; Packaging: Tape and Reel; Inductance Tolerance: 5%; Composition: Wirewound; Inductance: 33nH; Max DC Current: 600mA; Termination: SMD/SMT; DC Current: 600mA; Military Standard: Not; Length: 0.063inch; Height: 1.05mm; Width: 0.031inch; Height - Seated (Max): 0.037inch; Depth: 1.25mm; REACH SVHC: No SVHC; ComponentLink1URL: http://www.farnell.com/datasheets/1885356.pdf?src-supplier=Element14; ComponentLink1Description: http://www.farnell.com/datasheets/1885356.pdf?src-supplier=Element14; Supplier Part Number 1: 1865866
footprint L0603
pins: 1, 2

## LIS2DH12TR
designator U?
STMICROELECTRONICS - LIS2DH12TR - 3-AXIS ACCELEROMETER, DIGITAL, LGA-12; Min Supply Voltage: 1.71V; Max Supply Voltage: 3.6V; Bandwidth: 672Hz; Interface: I2C,SPI; Output Type: SPI,I2C,Digital; Axis: X, Y, Z; Supplier 1: Farnell; Manufacturer: STMicroelectronics; Manufacturer Part Number: LIS2DH12TR; Stock 1: 0; Mount: Surface Mount; Case/Package: LGA; Number of Pins: 12; Contact Plating: Gold; Min Operating Temperature: -40°C; Max Operating Temperature: 85°C; Packaging: Cut Tape; Length: 2.15mm; Height: 1mm; Width: 2.15mm; Radiation Hardening: No; REACH SVHC: No SVHC; Lead Free: Lead Free; ComponentLink1URL: http://www.farnell.com/datasheets/2006544.pdf?src-supplier=Element14; ComponentLink1Description: http://www.farnell.com/datasheets/2006544.pdf?src-supplier=Element14; Supplier Part Number 1: 2433081RL
footprint LIS2DH12
pins: 1 SCL/SPC, 2 CS, 3 SDO/SA0, 4 SDA/SDI/SDO, 5 RES_5, 6 GND, 7 GND, 8 GND, 9 VDD, 10 VDDIO, 11 INT2, 12 INT1

## LQG18HN27NJ00D
designator L?, comment 27nH
Inductor RF Chip Multi-Layer 27nH 5% 100MHz 12Q-Factor Air 300mA 550mOhm DCR 0603 T/R; Manufacturer: Murata; Manufacturer Part Number: LQG18HN27NJ00D; DC Resistance (DCR): 550mR; Q Factor: 12; Self Resonant Frequency: 2GHz; Shielding: Unshielded; Supplier 1: Digi-Key; Stock 1: 0; Mount: Surface Mount; Case/Package: 0603; Core Material: Air; Case Code (Metric): 1608; Case Code (Imperial): 0603; Min Operating Temperature: -55°C; Max Operating Temperature: 85°C; Tolerance: 5%; Inductance: 27nH; Packaging: Tape and Reel; Current Rating: 300mA; Max DC Current: 300mA; Inductance Tolerance: 5%; Package Quantity: 4000; Termination: SMD/SMT; Test Frequency: 100MHz; DC Current: 300mA; Military Standard: Not; Length: 0.063inch; Height: 0.8mm; Width: 0.8mm; Height - Seated (Max): 0.037inch; Depth: 0.95mm; Radiation Hardening: No; REACH SVHC: No SVHC; Lead Free: Lead Free; ComponentLink1URL: http://search.murata.co.jp/Ceramy/image/img/P02/JELF243B-0002.pdf?src-supplier=Digi-Key; ComponentLink1Description: http://search.murata.co.jp/Ceramy/image/img/P02/JELF243B-0002.pdf?src-supplier=Digi-Key; ComponentLink2URL: http://www.farnell.com/datasheets/5102.pdf?src-supplier=Element14; ComponentLink2Description: http://www.farnell.com/datasheets/5102.pdf?src-supplier=Element14; ComponentLink3URL: http://psearch.en.murata.com/inductor/product/LQG18HN27NJ00_.pdf?src-supplier=Digi-Key; ComponentLink3Description: http://psearch.en.murata.com/inductor/product/LQG18HN27NJ00_.pdf?src-supplier=Digi-Key; ComponentLink4URL: http://search.murata.co.jp/Ceramy/image/img/PDF/ENG/L0075S0083LQG18H.pdf?src-supplier=Avnet; ComponentLink4Description: http://search.murata.co.jp/Ceramy/image/img/PDF/ENG/L0075S0083LQG18H.pdf?src-supplier=Avnet; ComponentLink5URL: http://search.murata.co.jp/Ceramy/image/img/PDF/ENG/L0075S0083LQG18H.pdf?src-supplier=Avnet+Europe; ComponentLink5Description: http://search.murata.co.jp/Ceramy/image/img/PDF/ENG/L0075S0083LQG18H.pdf?src-supplier=Avnet+Europe; ComponentLink6URL: http://uk.rs-online.com/webdocs/0f10/0900766b80f1087c.pdf?src-supplier=RSComponents; ComponentLink6Description: http://uk.rs-online.com/webdocs/0f10/0900766b80f1087c.pdf?src-supplier=RSComponents; Supplier Part Number 1: 490-6579-2-ND
footprint L0603
pins: 1, 2

## MAX-M8Q-0
designator U?, comment Ublox MAX M8
Rf Rcvr Gnss/gps 1.575GHZ 18LCC; Manufacturer: u-blox; Manufacturer Part Number: MAX-M8Q-0; Supplier 1: Digi-Key; Stock 1: 10805; Supplier Part Number 1: 672-1003-6-ND
footprint Ublox MAX M8
pins: 1 GND, 2 TXD, 3 RXD, 4 TIMEPULSE, 5 EXTINT, 6 V_BCKP, 7 VCC_IO, 8 VCC, 9 RESET_N, 10 GND, 11 RN_IN, 12 GND, 13 LNA_EN, 14 VCC_RF, 15 V_ANT, 16 SDA, 17 SCL, 18 SAFEBOOT_N

## MBR120VLSFT1G
designator D?
DIODE SCHOTTKY 20V 1A SOD123FL; Manufacturer: ON Semiconductor; Max Surge Current: 45A; Forward Voltage: 340mV; Peak Reverse Current: 600uA; Element Configuration: Single; Polarity: Standard; Supplier 1: Farnell; Manufacturer Part Number: MBR120VLSFT1G; Stock 1: 0; Number of Pins: 2; Contact Plating: Tin,Matte; Min Operating Temperature: -65°C; Max Operating Temperature: 125°C; Package Quantity: 3000; Forward Current: 1A; Packaging: Tape and Reel; Max Reverse Leakage Current: 600uA; Average Rectified Current: 1A; Max Repetitive Reverse Voltage (Vrrm): 20V; Max Forward Surge Current (Ifsm): 45A; Peak Non-Repetitive Surge Current: 45A; Voltage Rating (DC): 20V; Current Rating: 1A; Output Current: 1A; Max Reverse Voltage (DC): 20V; Length: 2.9mm; Height: 0.9mm; Width: 1.8mm; Radiation Hardening: No; REACH SVHC: No SVHC; Lead Free: Lead Free; Halogen Free: Halogen Free; ComponentLink1URL: http://www.farnell.com/datasheets/85900.pdf?src-supplier=Element14; ComponentLink1Description: http://www.farnell.com/datasheets/85900.pdf?src-supplier=Element14; ComponentLink2URL: http://www.onsemi.cn/pub_link/Collateral/MBR120VLSFT1-D.PDF?src-supplier=Avnet+Europe; ComponentLink2Description: http://www.onsemi.cn/pub_link/Collateral/MBR120VLSFT1-D.PDF?src-supplier=Avnet+Europe; ComponentLink3URL: https://www.alliedelec.com/m/d/71572cff3445748bb7aa75769c4030bb.pdf?src-supplier=Allied+Electronics; ComponentLink3Description: https://www.alliedelec.com/m/d/71572cff3445748bb7aa75769c4030bb.pdf?src-supplier=Allied+Electronics; ComponentLink4URL: http://www.onsemi.com/pub/Collateral/MBR120VLSFT1-D.PDF?src-supplier=Future+Electronics; ComponentLink4Description: http://www.onsemi.com/pub/Collateral/MBR120VLSFT1-D.PDF?src-supplier=Future+Electronics; ComponentLink5URL: http://www.onsemi.com/pub/Collateral/MBR120VLSFT1-D.PDF?src-supplier=Digi-Key; ComponentLink5Description: http://www.onsemi.com/pub/Collateral/MBR120VLSFT1-D.PDF?src-supplier=Digi-Key; ComponentLink6URL: http://www.onsemi.cn/pub_link/Collateral/MBR120VLSFT1-D.PDF?src-supplier=Avnet+Asia; ComponentLink6Description: http://www.onsemi.cn/pub_link/Collateral/MBR120VLSFT1-D.PDF?src-supplier=Avnet+Asia; Supplier Part Number 1: 2393584
footprint MBR120VLSFT1G
pins: 1 Cathode, 2 Anode

## MCP73831T-2ACI/OT
designator U?
MICROCHIP - MCP73831T-2ACI/OT - LI-ION/LI-POLY CHARGE CONTROLLER; Number of Cells: 1; Output Voltage: 4.2V; Max Supply Voltage: 6V; Min Supply Voltage: 3.75V; Output Current: 500mA; Max Output Voltage: 4.5V; Min Output Voltage: 4.168V; Max Power Dissipation: 1.54W; Drain to Source Resistance: 350mR; Voltage Rating: 4.534V; Supplier 1: Farnell; Manufacturer: Microchip; Manufacturer Part Number: MCP73831T-2ACI/OT; Stock 1: 14250; Pricing 1: 1=0.493, 10=0.484, 25=0.412, 50=0.39, 100=0.368 (EUR); Mount: Surface Mount; Case/Package: SOT-23; Number of Pins: 5; Weight: 0.00709oz; Contact Plating: Tin,Matte; Min Operating Temperature: -40°C; Max Operating Temperature: 85°C; Packaging: Tape and Reel; Max Charge Current: 500mA; Max Input Voltage: 6V; Number of Outputs: 1; Number of Channels: 1; Termination: SMD/SMT; Length: 0.122inch; Height: 0.051inch; Width: 0.071inch; Radiation Hardening: No; REACH SVHC: No SVHC; Lead Free: Lead Free; ComponentLink1URL: http://www.microchip.com/mymicrochip/filehandler.aspx?ddocname=en023833&src-supplier=Digi-Key; ComponentLink1Description: http://www.microchip.com/mymicrochip/filehandler.aspx?ddocname=en023833&src-supplier=Digi-Key; ComponentLink2URL: http://www.farnell.com/datasheets/630369.pdf?src-supplier=Element14; ComponentLink2Description: http://www.farnell.com/datasheets/630369.pdf?src-supplier=Element14; ComponentLink3URL: http://www.farnell.com/datasheets/2124927.pdf?src-supplier=Element14; ComponentLink3Description: http://www.farnell.com/datasheets/2124927.pdf?src-supplier=Element14; ComponentLink4URL: http://ww1.microchip.com/downloads/en/DeviceDoc/21984e.pdf?src-supplier=Avnet; ComponentLink4Description: http://ww1.microchip.com/downloads/en/DeviceDoc/21984e.pdf?src-supplier=Avnet; ComponentLink5URL: http://www.farnell.com/datasheets/2124927.pdf?src-supplier=Newark; ComponentLink5Description: http://www.farnell.com/datasheets/2124927.pdf?src-supplier=Newark; ComponentLink6URL: http://www.microchip.com/mymicrochip/filehandler.aspx?ddocname=en025112&src-supplier=Future+Electronics; ComponentLink6Description: http://www.microchip.com/mymicrochip/filehandler.aspx?ddocname=en025112&src-supplier=Future+Electronics; ComponentLink7URL: http://www.produktinfo.conrad.com/datenblaetter/650000-674999/651521-da-01-en-CONTR__MCP73831T_2ACI_OT_SOT_23_5_MCP.pdf?src-supplier=Conrad; ComponentLink7Description: http://www.produktinfo.conrad.com/datenblaetter/650000-674999/651521-da-01-en-CONTR__MCP73831T_2ACI_OT_SOT_23_5_MCP.pdf?src-supplier=Conrad; Supplier Part Number 1: 1332158
footprint MCP73831T-2ACI/OT
pins: 1 STAT, 2 VSS, 3 VBAT, 4 VDD, 5 PROG

## MH_7.4MM_NC
designator MH?, comment MH_7.4MM_3.2MM_NP  (value not drawn)
footprint MH_NC
pins: 1